# EAGLE library part TP4056-EMSOP8 (library TP4056-EMSOP8)
nc Source: Datasheet <http://pdf1.alldatasheet.co.kr/datasheet-pdf/view/1140415/ASIC/TP4056X.html>
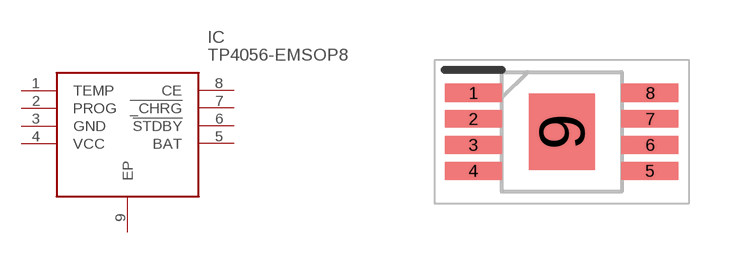
[diagram p0: symbol with the pads of SOP65P490X110-9N; footprint SOP65P490X110-9N]

Designator prefix IC

## TP4056-EMSOP8 (Description: nc; Height: 1.1mm; Manufacturer_Name: TOP POWER; Manufacturer_Part_Number: TP4056-EMSOP8)  [SOP65P490X110-9N]
1  TEMP
2  PROG
3  GND
4  VCC
5  BAT
6  !STDBY
7  !_CHRG
8  CE
9  EP

## Footprint SOP65P490X110-9N (pad centres in mm)
TP4056-EMSOP8
smd 1.425 x 0.45: 1 -2.212,0.975; 2 -2.212,0.325; 3 -2.212,-0.325; 4 -2.212,-0.975; 5 2.212,-0.975; 6 2.212,-0.325; 7 2.212,0.325; 8 2.212,0.975
smd 1.65 x 1.9: 9 0,0